# Altium footprint library CONN_TBLOCK_7P62.PcbLib: 76 footprints (part 3 of 5)
Each footprint in its own frame and in the unit in brackets; x right, y up, seen from the top. Pads: shape width x height; smd on the part's side, far side on the other; paste and mask are expansions set on the pad; w line width, h text height; cw(c..) or ccw(c..) is an arc to the next point about the centre after c.
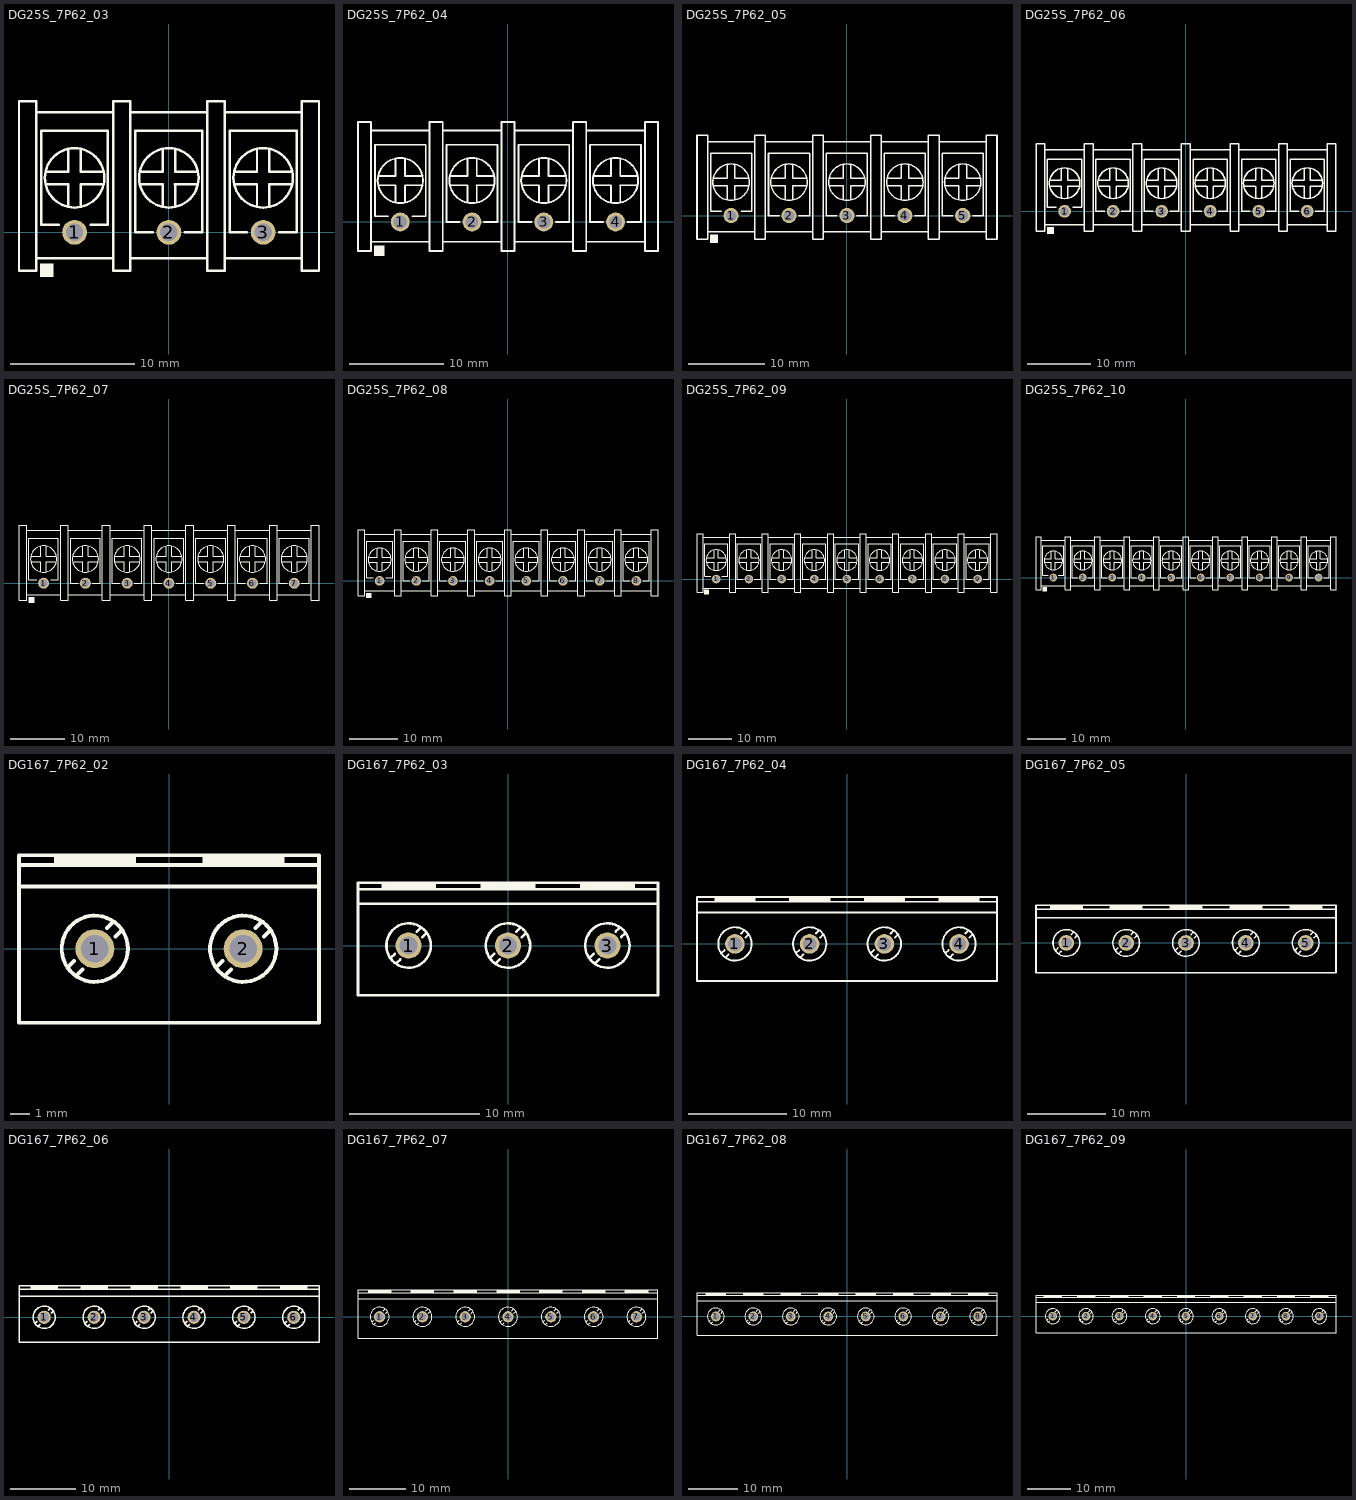
[diagram p2: the footprints below, top view; thin cyan lines are the x and y axes]

## DG25S_7P62_03 [mm] "Terminal Screw, pitch 7.62mm, H 14.8mm, DG25C-7.62-xxP"
height 14.8
pads (3):
  round 2 / inner round 2 / far side rect 2.2x3 hole 1.4: 1(-7.62,0)
  round 2 / inner round 2 / far side oval 2.2x3 hole 1.4: 2(0,0) 3(7.62,0)
Top Overlay:
  circle w0.2: c7.62,4.4 r2.4
  circle w0.2: c0,4.4 r2.4
  circle w0.2: c-7.62,4.4 r2.4
  rectangle: -10.42,-3.6 -9.32,-2.5
  lines w0.2: -10.71,-2.1 -4.51,-2.1 ; -10.71,9.7 -4.51,9.7 ; -9.92,3.9 -8.11,3.9 ; -9.92,4.9 -8.12,4.9 -8.12,6.7 ; -8.91,0.6 -10.32,0.6 -10.32,8.2 -4.92,8.2 -4.92,0.6 -6.31,0.6 ; -8.12,2.1 -8.12,3.9 ; -7.12,2.1 -7.12,3.9 ; -7.12,6.7 -7.12,4.9 -5.32,4.9 ; -7.11,3.9 -5.32,3.9 ; -3.09,-2.1 3.11,-2.1 ; -3.09,9.7 3.11,9.7 ; -2.3,3.9 -0.51,3.9 ; -2.3,4.9 -0.5,4.9 -0.5,6.7 ; -1.31,0 -2.7,0 -2.7,8.2 2.7,8.2 2.7,0 1.29,0 ; -0.5,2.1 -0.5,3.9 ; 0.49,3.9 2.3,3.9 ; 0.5,2.1 0.5,3.9 ; 0.5,6.7 0.5,4.9 2.3,4.9 ; 4.53,-2.1 10.73,-2.1 ; 4.53,9.7 10.73,9.7 ; 5.32,3.9 7.11,3.9 ; 5.32,4.9 7.12,4.9 7.12,6.7 ; 6.31,0 4.92,0 4.92,8.2 10.32,8.2 10.32,0 8.91,0 ; 7.12,2.1 7.12,3.9 ; 8.11,3.9 9.92,3.9 ; 8.12,2.1 8.12,3.9 ; 8.12,6.7 8.12,4.9 9.92,4.9 ; -12.11,-3.1 -12.11,10.6 -10.71,10.6 -10.71,-3.1 -12.11,-3.1 ; -4.51,-3.1 -4.51,10.6 -3.11,10.6 -3.11,-3.1 -4.51,-3.1 ; 3.11,-3.1 3.11,10.6 4.51,10.6 4.51,-3.1 3.11,-3.1 ; 10.73,-3.1 10.73,10.6 12.13,10.6 12.13,-3.1 10.73,-3.1
3D body "DG25S-B-03P.stp": height 14.8, standoff -5.4, extent -12.18,-3 12.18,10.5

## DG25S_7P62_04 [mm] "Terminal Screw, pitch 7.62mm, H 14.8mm, DG25C-7.62-xxP"
height 14.8
pads (4):
  round 2 / inner round 2 / far side rect 2.2x3 hole 1.4: 1(-11.43,0)
  round 2 / inner round 2 / far side oval 2.2x3 hole 1.4: 2(-3.81,0) 3(3.81,0) 4(11.43,0)
Top Overlay:
  circle w0.2: c-11.43,4.4 r2.4
  circle w0.2: c-3.81,4.4 r2.4
  circle w0.2: c3.81,4.4 r2.4
  circle w0.2: c11.43,4.4 r2.4
  rectangle: -14.23,-3.6 -13.13,-2.5
  lines w0.2: -14.52,-2.1 -8.32,-2.1 ; -14.52,9.7 -8.32,9.7 ; -13.73,3.9 -11.92,3.9 ; -13.73,4.9 -11.93,4.9 -11.93,6.7 ; -12.72,0.6 -14.13,0.6 -14.13,8.2 -8.73,8.2 -8.73,0.6 -10.12,0.6 ; -11.93,2.1 -11.93,3.9 ; -10.93,2.1 -10.93,3.9 ; -10.93,6.7 -10.93,4.9 -9.13,4.9 ; -10.92,3.9 -9.13,3.9 ; -6.9,-2.1 -0.7,-2.1 ; -6.9,9.7 -0.7,9.7 ; -6.11,3.9 -4.32,3.9 ; -6.11,4.9 -4.31,4.9 -4.31,6.7 ; -5.12,0 -6.51,0 -6.51,8.2 -1.11,8.2 -1.11,0 -2.52,0 ; -4.31,2.1 -4.31,3.9 ; -3.32,3.9 -1.51,3.9 ; -3.31,2.1 -3.31,3.9 ; -3.31,6.7 -3.31,4.9 -1.51,4.9 ; 0.72,-2.1 6.92,-2.1 ; 0.72,9.7 6.92,9.7 ; 1.51,3.9 3.3,3.9 ; 1.51,4.9 3.31,4.9 3.31,6.7 ; 2.5,0 1.11,0 1.11,8.2 6.51,8.2 6.51,0 5.1,0 ; 3.31,2.1 3.31,3.9 ; 4.3,3.9 6.11,3.9 ; 4.31,2.1 4.31,3.9 ; 4.31,6.7 4.31,4.9 6.11,4.9 ; 8.34,-2.1 14.54,-2.1 ; 8.34,9.7 14.54,9.7 ; 9.13,3.9 10.92,3.9 ; 9.13,4.9 10.93,4.9 10.93,6.7 ; 10.12,0 8.73,0 8.73,8.2 14.13,8.2 14.13,0 12.72,0 ; 10.93,2.1 10.93,3.9 ; 11.92,3.9 13.73,3.9 ; 11.93,2.1 11.93,3.9 ; 11.93,6.7 11.93,4.9 13.73,4.9 ; -15.92,-3.1 -14.52,-3.1 -14.52,10.6 -15.92,10.6 -15.92,-3.1 ; -8.32,-3.1 -6.92,-3.1 -6.92,10.6 -8.32,10.6 -8.32,-3.1 ; -0.7,-3.1 0.7,-3.1 0.7,10.6 -0.7,10.6 -0.7,-3.1 ; 6.92,-3.1 8.32,-3.1 8.32,10.6 6.92,10.6 6.92,-3.1 ; 14.54,-3.1 15.94,-3.1 15.94,10.6 14.54,10.6 14.54,-3.1
3D body "DG25S-B-02P.stp": height 14.8, standoff -5.4, extent -15.99,-3 0.75,10.5
3D body "DG25S-B-02P.stp": height 14.8, standoff -5.4, extent -0.75,-3 15.99,10.5

## DG25S_7P62_05 [mm] "Terminal Screw, pitch 7.62mm, H 14.8mm, DG25C-7.62-xxP"
height 14.8
pads (5):
  round 2 / inner round 2 / far side rect 2.2x3 hole 1.4: 1(-15.24,0)
  round 2 / inner round 2 / far side oval 2.2x3 hole 1.4: 2(-7.62,0) 3(0,0) 4(7.62,0) 5(15.24,0)
Top Overlay:
  circle w0.2: c15.24,4.4 r2.4
  circle w0.2: c7.62,4.4 r2.4
  circle w0.2: c0,4.4 r2.4
  circle w0.2: c-7.62,4.4 r2.4
  circle w0.2: c-15.24,4.4 r2.4
  rectangle: -18.04,-3.6 -16.94,-2.5
  lines w0.2: -18.33,-2.1 -12.13,-2.1 ; -18.33,9.7 -12.13,9.7 ; -17.54,3.9 -15.73,3.9 ; -17.54,4.9 -15.74,4.9 -15.74,6.7 ; -16.53,0.6 -17.94,0.6 -17.94,8.2 -12.54,8.2 -12.54,0.6 -13.93,0.6 ; -15.74,2.1 -15.74,3.9 ; -14.74,2.1 -14.74,3.9 ; -14.74,6.7 -14.74,4.9 -12.94,4.9 ; -14.73,3.9 -12.94,3.9 ; -10.71,-2.1 -4.51,-2.1 ; -10.71,9.7 -4.51,9.7 ; -9.92,3.9 -8.13,3.9 ; -9.92,4.9 -8.12,4.9 -8.12,6.7 ; -8.93,0 -10.32,0 -10.32,8.2 -4.92,8.2 -4.92,0 -6.33,0 ; -8.12,2.1 -8.12,3.9 ; -7.13,3.9 -5.32,3.9 ; -7.12,2.1 -7.12,3.9 ; -7.12,6.7 -7.12,4.9 -5.32,4.9 ; -3.09,-2.1 3.11,-2.1 ; -3.09,9.7 3.11,9.7 ; -2.3,3.9 -0.51,3.9 ; -2.3,4.9 -0.5,4.9 -0.5,6.7 ; -1.31,0 -2.7,0 -2.7,8.2 2.7,8.2 2.7,0 1.29,0 ; -0.5,2.1 -0.5,3.9 ; 0.49,3.9 2.3,3.9 ; 0.5,2.1 0.5,3.9 ; 0.5,6.7 0.5,4.9 2.3,4.9 ; 4.53,-2.1 10.73,-2.1 ; 4.53,9.7 10.73,9.7 ; 5.32,3.9 7.11,3.9 ; 5.32,4.9 7.12,4.9 7.12,6.7 ; 6.31,0 4.92,0 4.92,8.2 10.32,8.2 10.32,0 8.91,0 ; 7.12,2.1 7.12,3.9 ; 8.11,3.9 9.92,3.9 ; 8.12,2.1 8.12,3.9 ; 8.12,6.7 8.12,4.9 9.92,4.9 ; 12.15,-2.1 18.35,-2.1 ; 12.15,9.7 18.35,9.7 ; 12.94,3.9 14.73,3.9 ; 12.94,4.9 14.74,4.9 14.74,6.7 ; 13.93,0 12.54,0 12.54,8.2 17.94,8.2 17.94,0 16.53,0 ; 14.74,2.1 14.74,3.9 ; 15.73,3.9 17.54,3.9 ; 15.74,2.1 15.74,3.9 ; 15.74,6.7 15.74,4.9 17.54,4.9 ; -19.73,-3.1 -19.73,10.6 -18.33,10.6 -18.33,-3.1 -19.73,-3.1 ; -12.13,-3.1 -12.13,10.6 -10.73,10.6 -10.73,-3.1 -12.13,-3.1 ; -4.51,-3.1 -4.51,10.6 -3.11,10.6 -3.11,-3.1 -4.51,-3.1 ; 3.11,-3.1 3.11,10.6 4.51,10.6 4.51,-3.1 3.11,-3.1 ; 10.73,-3.1 10.73,10.6 12.13,10.6 12.13,-3.1 10.73,-3.1 ; 18.35,-3.1 18.35,10.6 19.75,10.6 19.75,-3.1 18.35,-3.1
3D body "DG25S-B-02P.stp": height 14.8, standoff -5.4, extent -19.8,-3 -3.06,10.5
3D body "DG25S-B-03P.stp": height 14.8, standoff -5.4, extent -4.56,-3 19.8,10.5

## DG25S_7P62_06 [mm] "Terminal Screw, pitch 7.62mm, H 14.8mm, DG25C-7.62-xxP"
height 14.8
pads (6):
  round 2 / inner round 2 / far side rect 2.2x3 hole 1.4: 1(-19.05,0)
  round 2 / inner round 2 / far side oval 2.2x3 hole 1.4: 2(-11.43,0) 3(-3.81,0) 4(3.81,0) 5(11.43,0) 6(19.05,0)
Top Overlay:
  circle w0.2: c19.05,4.4 r2.4
  circle w0.2: c11.43,4.4 r2.4
  circle w0.2: c3.81,4.4 r2.4
  circle w0.2: c-3.81,4.4 r2.4
  circle w0.2: c-11.43,4.4 r2.4
  circle w0.2: c-19.05,4.4 r2.4
  rectangle: -21.85,-3.6 -20.75,-2.5
  lines w0.2: -22.14,-2.1 -15.94,-2.1 ; -22.14,9.7 -15.94,9.7 ; -21.35,3.9 -19.54,3.9 ; -21.35,4.9 -19.55,4.9 -19.55,6.7 ; -20.34,0.6 -21.75,0.6 -21.75,8.2 -16.35,8.2 -16.35,0.6 -17.74,0.6 ; -19.55,2.1 -19.55,3.9 ; -18.55,2.1 -18.55,3.9 ; -18.55,6.7 -18.55,4.9 -16.75,4.9 ; -18.54,3.9 -16.75,3.9 ; -14.52,-2.1 -8.32,-2.1 ; -14.52,9.7 -8.32,9.7 ; -13.73,3.9 -11.94,3.9 ; -13.73,4.9 -11.93,4.9 -11.93,6.7 ; -12.74,0 -14.13,0 -14.13,8.2 -8.73,8.2 -8.73,0 -10.14,0 ; -11.93,2.1 -11.93,3.9 ; -10.94,3.9 -9.13,3.9 ; -10.93,2.1 -10.93,3.9 ; -10.93,6.7 -10.93,4.9 -9.13,4.9 ; -6.9,-2.1 -0.7,-2.1 ; -6.9,9.7 -0.7,9.7 ; -6.11,3.9 -4.32,3.9 ; -6.11,4.9 -4.31,4.9 -4.31,6.7 ; -5.12,0 -6.51,0 -6.51,8.2 -1.11,8.2 -1.11,0 -2.52,0 ; -4.31,2.1 -4.31,3.9 ; -3.32,3.9 -1.51,3.9 ; -3.31,2.1 -3.31,3.9 ; -3.31,6.7 -3.31,4.9 -1.51,4.9 ; 0.72,-2.1 6.92,-2.1 ; 0.72,9.7 6.92,9.7 ; 1.51,3.9 3.3,3.9 ; 1.51,4.9 3.31,4.9 3.31,6.7 ; 2.5,0 1.11,0 1.11,8.2 6.51,8.2 6.51,0 5.1,0 ; 3.31,2.1 3.31,3.9 ; 4.3,3.9 6.11,3.9 ; 4.31,2.1 4.31,3.9 ; 4.31,6.7 4.31,4.9 6.11,4.9 ; 8.34,-2.1 14.54,-2.1 ; 8.34,9.7 14.54,9.7 ; 9.13,3.9 10.92,3.9 ; 9.13,4.9 10.93,4.9 10.93,6.7 ; 10.12,0 8.73,0 8.73,8.2 14.13,8.2 14.13,0 12.72,0 ; 10.93,2.1 10.93,3.9 ; 11.92,3.9 13.73,3.9 ; 11.93,2.1 11.93,3.9 ; 11.93,6.7 11.93,4.9 13.73,4.9 ; 15.96,-2.1 22.16,-2.1 ; 15.96,9.7 22.16,9.7 ; 16.75,3.9 18.54,3.9 ; 16.75,4.9 18.55,4.9 18.55,6.7 ; 17.74,0 16.35,0 16.35,8.2 21.75,8.2 21.75,0 20.34,0 ; 18.55,2.1 18.55,3.9 ; 19.54,3.9 21.35,3.9 ; 19.55,2.1 19.55,3.9 ; 19.55,6.7 19.55,4.9 21.35,4.9 ; -23.54,-3.1 -23.54,10.6 -22.14,10.6 -22.14,-3.1 -23.54,-3.1 ; -15.94,-3.1 -15.94,10.6 -14.54,10.6 -14.54,-3.1 -15.94,-3.1 ; -8.32,-3.1 -8.32,10.6 -6.92,10.6 -6.92,-3.1 -8.32,-3.1 ; -0.7,-3.1 -0.7,10.6 0.7,10.6 0.7,-3.1 -0.7,-3.1 ; 6.92,-3.1 6.92,10.6 8.32,10.6 8.32,-3.1 6.92,-3.1 ; 14.54,-3.1 14.54,10.6 15.94,10.6 15.94,-3.1 14.54,-3.1 ; 22.16,-3.1 22.16,10.6 23.56,10.6 23.56,-3.1 22.16,-3.1
3D body "DG25S-B-03P.stp": height 14.8, standoff -5.4, extent -0.75,-3 23.61,10.5
3D body "DG25S-B-03P.stp": height 14.8, standoff -5.4, extent -23.61,-3 0.75,10.5

## DG25S_7P62_07 [mm] "Terminal Screw, pitch 7.62mm, H 14.8mm, DG25C-7.62-xxP"
height 14.8
pads (7):
  round 2 / inner round 2 / far side rect 2.2x3 hole 1.4: 1(-22.86,0)
  round 2 / inner round 2 / far side oval 2.2x3 hole 1.4: 2(-15.24,0) 3(-7.62,0) 4(0,0) 5(7.62,0) 6(15.24,0) 7(22.86,0)
Top Overlay:
  circle w0.2: c22.86,4.4 r2.4
  circle w0.2: c15.24,4.4 r2.4
  circle w0.2: c7.62,4.4 r2.4
  circle w0.2: c0,4.4 r2.4
  circle w0.2: c-7.62,4.4 r2.4
  circle w0.2: c-15.24,4.4 r2.4
  circle w0.2: c-22.86,4.4 r2.4
  rectangle: -25.66,-3.6 -24.56,-2.5
  lines w0.2: -25.95,-2.1 -19.75,-2.1 ; -25.95,9.7 -19.75,9.7 ; -25.16,3.9 -23.35,3.9 ; -25.16,4.9 -23.36,4.9 -23.36,6.7 ; -24.15,0.6 -25.56,0.6 -25.56,8.2 -20.16,8.2 -20.16,0.6 -21.55,0.6 ; -23.36,2.1 -23.36,3.9 ; -22.36,2.1 -22.36,3.9 ; -22.36,6.7 -22.36,4.9 -20.56,4.9 ; -22.35,3.9 -20.56,3.9 ; -18.33,-2.1 -12.13,-2.1 ; -18.33,9.7 -12.13,9.7 ; -17.54,3.9 -15.75,3.9 ; -17.54,4.9 -15.74,4.9 -15.74,6.7 ; -16.55,0 -17.94,0 -17.94,8.2 -12.54,8.2 -12.54,0 -13.95,0 ; -15.74,2.1 -15.74,3.9 ; -14.75,3.9 -12.94,3.9 ; -14.74,2.1 -14.74,3.9 ; -14.74,6.7 -14.74,4.9 -12.94,4.9 ; -10.71,-2.1 -4.51,-2.1 ; -10.71,9.7 -4.51,9.7 ; -9.92,3.9 -8.13,3.9 ; -9.92,4.9 -8.12,4.9 -8.12,6.7 ; -8.93,0 -10.32,0 -10.32,8.2 -4.92,8.2 -4.92,0 -6.33,0 ; -8.12,2.1 -8.12,3.9 ; -7.13,3.9 -5.32,3.9 ; -7.12,2.1 -7.12,3.9 ; -7.12,6.7 -7.12,4.9 -5.32,4.9 ; -3.09,-2.1 3.11,-2.1 ; -3.09,9.7 3.11,9.7 ; -2.3,3.9 -0.51,3.9 ; -2.3,4.9 -0.5,4.9 -0.5,6.7 ; -1.31,0 -2.7,0 -2.7,8.2 2.7,8.2 2.7,0 1.29,0 ; -0.5,2.1 -0.5,3.9 ; 0.49,3.9 2.3,3.9 ; 0.5,2.1 0.5,3.9 ; 0.5,6.7 0.5,4.9 2.3,4.9 ; 4.53,-2.1 10.73,-2.1 ; 4.53,9.7 10.73,9.7 ; 5.32,3.9 7.11,3.9 ; 5.32,4.9 7.12,4.9 7.12,6.7 ; 6.31,0 4.92,0 4.92,8.2 10.32,8.2 10.32,0 8.91,0 ; 7.12,2.1 7.12,3.9 ; 8.11,3.9 9.92,3.9 ; 8.12,2.1 8.12,3.9 ; 8.12,6.7 8.12,4.9 9.92,4.9 ; 12.15,-2.1 18.35,-2.1 ; 12.15,9.7 18.35,9.7 ; 12.94,3.9 14.73,3.9 ; 12.94,4.9 14.74,4.9 14.74,6.7 ; 13.93,0 12.54,0 12.54,8.2 17.94,8.2 17.94,0 16.53,0 ; 14.74,2.1 14.74,3.9 ; 15.73,3.9 17.54,3.9 ; 15.74,2.1 15.74,3.9 ; 15.74,6.7 15.74,4.9 17.54,4.9 ; 19.77,-2.1 25.97,-2.1 ; 19.77,9.7 25.97,9.7 ; 20.56,3.9 22.35,3.9 ; 20.56,4.9 22.36,4.9 22.36,6.7 ; 21.55,0 20.16,0 20.16,8.2 25.56,8.2 25.56,0 24.15,0 ; 22.36,2.1 22.36,3.9 ; 23.35,3.9 25.16,3.9 ; 23.36,2.1 23.36,3.9 ; 23.36,6.7 23.36,4.9 25.16,4.9 ; -27.35,-3.1 -27.35,10.6 -25.95,10.6 -25.95,-3.1 -27.35,-3.1 ; -19.75,-3.1 -19.75,10.6 -18.35,10.6 -18.35,-3.1 -19.75,-3.1 ; -12.13,-3.1 -12.13,10.6 -10.73,10.6 -10.73,-3.1 -12.13,-3.1 ; -4.51,-3.1 -4.51,10.6 -3.11,10.6 -3.11,-3.1 -4.51,-3.1 ; 3.11,-3.1 3.11,10.6 4.51,10.6 4.51,-3.1 3.11,-3.1 ; 10.73,-3.1 10.73,10.6 12.13,10.6 12.13,-3.1 10.73,-3.1 ; 18.35,-3.1 18.35,10.6 19.75,10.6 19.75,-3.1 18.35,-3.1 ; 25.97,-3.1 25.97,10.6 27.37,10.6 27.37,-3.1 25.97,-3.1
3D body "DG25S-B-02P.stp": height 14.8, standoff -5.4, extent -27.42,-3 -10.68,10.5
3D body "DG25S-B-03P.stp": height 14.8, standoff -5.4, extent -12.18,-3 12.18,10.5
3D body "DG25S-B-02P.stp": height 14.8, standoff -5.4, extent 10.68,-3 27.42,10.5

## DG25S_7P62_08 [mm] "Terminal Screw, pitch 7.62mm, H 14.8mm, DG25C-7.62-xxP"
height 14.8
pads (8):
  round 2 / inner round 2 / far side rect 2.2x3 hole 1.4: 1(-26.67,0)
  round 2 / inner round 2 / far side oval 2.2x3 hole 1.4: 2(-19.05,0) 3(-11.43,0) 4(-3.81,0) 5(3.81,0) 6(11.43,0) 7(19.05,0) 8(26.67,0)
Top Overlay:
  drawing of 165 lines, arcs and shapes, not listed
3D body "DG25S-B-02P.stp": height 14.8, standoff -5.4, extent -31.23,-3 -14.49,10.5
3D body "DG25S-B-03P.stp": height 14.8, standoff -5.4, extent -15.99,-3 8.37,10.5
3D body "DG25S-B-03P.stp": height 14.8, standoff -5.4, extent 6.87,-3 31.23,10.5

## DG25S_7P62_09 [mm] "Terminal Screw, pitch 7.62mm, H 14.8mm, DG25C-7.62-xxP"
height 14.8
pads (9):
  round 2 / inner round 2 / far side rect 2.2x3 hole 1.4: 1(-30.48,0)
  round 2 / inner round 2 / far side oval 2.2x3 hole 1.4: 2(-22.86,0) 3(-15.24,0) 4(-7.62,0) 5(0,0) 6(7.62,0) 7(15.24,0) 8(22.86,0) 9(30.48,0)
Top Overlay:
  drawing of 185 lines, arcs and shapes, not listed
3D body "DG25S-B-03P.stp": height 14.8, standoff -5.4, extent 10.68,-3 35.04,10.5
3D body "DG25S-B-03P.stp": height 14.8, standoff -5.4, extent -12.18,-3 12.18,10.5
3D body "DG25S-B-03P.stp": height 14.8, standoff -5.4, extent -35.06,-2.9 -10.7,10.6

## DG25S_7P62_10 [mm] "Terminal Screw, pitch 7.62mm, H 14.8mm, DG25C-7.62-xxP"
height 14.8
pads (10):
  round 2 / inner round 2 / far side rect 2.2x3 hole 1.4: 1(-34.29,0)
  round 2 / inner round 2 / far side oval 2.2x3 hole 1.4: 2(-26.67,0) 3(-19.05,0) 4(-11.43,0) 5(-3.81,0) 6(3.81,0) 7(11.43,0) 8(19.05,0) 9(26.67,0) 10(34.29,0)
Top Overlay:
  drawing of 205 lines, arcs and shapes, not listed
3D body "DG25S-B-02P.stp": height 14.8, standoff -5.4, extent -38.85,-3 -22.11,10.5
3D body "DG25S-B-03P.stp": height 14.8, standoff -5.4, extent -23.61,-3 0.75,10.5
3D body "DG25S-B-02P.stp": height 14.8, standoff -5.4, extent -0.75,-3 15.99,10.5
3D body "DG25S-B-03P.stp": height 14.8, standoff -5.4, extent 14.49,-3 38.85,10.5

## DG167_7P62_02 [mm] "Terminal Screw, pitch 7.62mm, H 13.7mm"
height 13.7
pads (2):
  round 2 / inner round 2 / far side rect 2.2x3 hole 1.4: 1(-3.81,0)
  round 2 / inner round 2 / far side oval 2.2x3 hole 1.4: 2(3.81,0)
Top Overlay:
  circle w0.2: c3.81,0 r1.7
  circle w0.2: c-3.81,0 r1.7
  rectangle: 1.72,4.2 5.92,4.8
  rectangle: -5.9,4.2 -1.7,4.8
  lines w0.2: -7.7,3.2 7.7,3.2 ; -7.7,4.3 7.7,4.3 ; -5.154,-0.919 -4.871,-0.636 ; -4.729,-1.344 -4.446,-1.061 ; -3.174,1.061 -2.891,1.343 ; -2.749,0.636 -2.467,0.919 ; 2.466,-0.919 2.749,-0.636 ; 2.891,-1.344 3.174,-1.061 ; 4.446,1.061 4.729,1.343 ; 4.871,0.636 5.153,0.919 ; -7.7,-3.8 7.7,-3.8 7.7,4.8 -7.7,4.8 -7.7,-3.8
3D body "DG167-7.62-02P-12-00AH.STEP": height 13.7, standoff -4.5, extent -7.62,-3.8 7.62,4.8

## DG167_7P62_03 [mm] "Terminal Screw, pitch 7.62mm, H 13.7mm"
height 13.7
pads (3):
  round 2 / inner round 2 / far side rect 2.2x3 hole 1.4: 1(-7.62,0)
  round 2 / inner round 2 / far side oval 2.2x3 hole 1.4: 2(0,0) 3(7.62,0)
Top Overlay:
  circle w0.2: c7.62,0 r1.7
  circle w0.2: c0,0 r1.7
  circle w0.2: c-7.62,0 r1.7
  rectangle: 5.53,4.2 9.73,4.8
  rectangle: -2.09,4.2 2.11,4.8
  rectangle: -9.71,4.2 -5.51,4.8
  lines w0.2: -11.5,3.2 11.5,3.2 ; -11.5,4.3 11.5,4.3 ; -8.964,-0.919 -8.681,-0.636 ; -8.539,-1.344 -8.256,-1.061 ; -6.984,1.061 -6.701,1.343 ; -6.559,0.636 -6.277,0.919 ; -1.344,-0.919 -1.061,-0.636 ; -0.919,-1.344 -0.636,-1.061 ; 0.636,1.061 0.919,1.343 ; 1.061,0.636 1.343,0.919 ; 6.276,-0.919 6.559,-0.636 ; 6.701,-1.344 6.984,-1.061 ; 8.256,1.061 8.539,1.343 ; 8.681,0.636 8.963,0.919 ; -11.5,-3.8 11.5,-3.8 11.5,4.8 -11.5,4.8 -11.5,-3.8
3D body "DG167-7.62-03P-12-00AH.STEP": height 13.7, standoff -4.5, extent -11.43,-3.8 11.43,4.8

## DG167_7P62_04 [mm] "Terminal Screw, pitch 7.62mm, H 13.7mm"
height 13.7
pads (4):
  round 2 / inner round 2 / far side rect 2.2x3 hole 1.4: 1(-11.43,0)
  round 2 / inner round 2 / far side oval 2.2x3 hole 1.4: 2(-3.81,0) 3(3.81,0) 4(11.43,0)
Top Overlay:
  circle w0.2: c-11.43,0 r1.7
  circle w0.2: c-3.81,0 r1.7
  circle w0.2: c3.81,0 r1.7
  circle w0.2: c11.43,0 r1.7
  rectangle: -13.52,4.2 -9.32,4.8
  rectangle: -5.9,4.2 -1.7,4.8
  rectangle: 1.72,4.2 5.92,4.8
  rectangle: 9.34,4.2 13.54,4.8
  lines w0.2: -15.3,3.2 15.3,3.2 ; -15.3,4.3 15.3,4.3 ; -12.774,-0.919 -12.491,-0.636 ; -12.349,-1.344 -12.066,-1.061 ; -10.794,1.061 -10.511,1.343 ; -10.369,0.636 -10.087,0.919 ; -5.154,-0.919 -4.871,-0.636 ; -4.729,-1.344 -4.446,-1.061 ; -3.174,1.061 -2.891,1.343 ; -2.749,0.636 -2.467,0.919 ; 2.466,-0.919 2.749,-0.636 ; 2.891,-1.344 3.174,-1.061 ; 4.446,1.061 4.729,1.343 ; 4.871,0.636 5.153,0.919 ; 10.086,-0.919 10.369,-0.636 ; 10.511,-1.344 10.794,-1.061 ; 12.066,1.061 12.349,1.343 ; 12.491,0.636 12.773,0.919 ; -15.3,-3.8 15.3,-3.8 15.3,4.8 -15.3,4.8 -15.3,-3.8
3D body "DG167-7.62-04P-12-00AH.STEP": height 13.7, standoff -4.5, extent -15.24,-3.8 15.24,4.8

## DG167_7P62_05 [mm] "Terminal Screw, pitch 7.62mm, H 13.7mm"
height 13.7
pads (5):
  round 2 / inner round 2 / far side rect 2.2x3 hole 1.4: 1(-15.24,0)
  round 2 / inner round 2 / far side oval 2.2x3 hole 1.4: 2(-7.62,0) 3(0,0) 4(7.62,0) 5(15.24,0)
Top Overlay:
  circle w0.2: c15.24,0 r1.7
  circle w0.2: c7.62,0 r1.7
  circle w0.2: c0,0 r1.7
  circle w0.2: c-7.62,0 r1.7
  circle w0.2: c-15.24,0 r1.7
  rectangle: -17.33,4.2 -13.13,4.8
  rectangle: -9.71,4.2 -5.51,4.8
  rectangle: -2.09,4.2 2.11,4.8
  rectangle: 5.53,4.2 9.73,4.8
  rectangle: 13.15,4.2 17.35,4.8
  lines w0.2: -19.1,3.2 19.1,3.2 ; -19.1,4.3 19.1,4.3 ; -16.584,-0.919 -16.301,-0.636 ; -16.159,-1.344 -15.876,-1.061 ; -14.604,1.061 -14.321,1.343 ; -14.179,0.636 -13.897,0.919 ; -8.964,-0.919 -8.681,-0.636 ; -8.539,-1.344 -8.256,-1.061 ; -6.984,1.061 -6.701,1.343 ; -6.559,0.636 -6.277,0.919 ; -1.344,-0.919 -1.061,-0.636 ; -0.919,-1.344 -0.636,-1.061 ; 0.636,1.061 0.919,1.343 ; 1.061,0.636 1.343,0.919 ; 6.276,-0.919 6.559,-0.636 ; 6.701,-1.344 6.984,-1.061 ; 8.256,1.061 8.539,1.343 ; 8.681,0.636 8.963,0.919 ; 13.896,-0.919 14.179,-0.636 ; 14.321,-1.344 14.604,-1.061 ; 15.876,1.061 16.159,1.343 ; 16.301,0.636 16.583,0.919 ; -19.1,-3.8 19.1,-3.8 19.1,4.8 -19.1,4.8 -19.1,-3.8
3D body "DG167-7.62-05P-12-00AH.STEP": height 13.7, standoff -4.5, extent -19.05,-3.81 19.05,4.79

## DG167_7P62_06 [mm] "Terminal Screw, pitch 7.62mm, H 13.7mm"
height 13.7
pads (6):
  round 2 / inner round 2 / far side rect 2.2x3 hole 1.4: 1(-19.05,0)
  round 2 / inner round 2 / far side oval 2.2x3 hole 1.4: 2(-11.43,0) 3(-3.81,0) 4(3.81,0) 5(11.43,0) 6(19.05,0)
Top Overlay:
  circle w0.2: c19.05,0 r1.7
  circle w0.2: c11.43,0 r1.7
  circle w0.2: c3.81,0 r1.7
  circle w0.2: c-3.81,0 r1.7
  circle w0.2: c-11.43,0 r1.7
  circle w0.2: c-19.05,0 r1.7
  rectangle: 16.96,4.2 21.16,4.8
  rectangle: 9.34,4.2 13.54,4.8
  rectangle: 1.72,4.2 5.92,4.8
  rectangle: -5.9,4.2 -1.7,4.8
  rectangle: -13.52,4.2 -9.32,4.8
  rectangle: -21.14,4.2 -16.94,4.8
  lines w0.2: -22.9,3.2 22.9,3.2 ; -22.9,4.3 22.9,4.3 ; -20.394,-0.919 -20.111,-0.636 ; -19.969,-1.344 -19.686,-1.061 ; -18.414,1.061 -18.131,1.343 ; -17.989,0.636 -17.707,0.919 ; -12.774,-0.919 -12.491,-0.636 ; -12.349,-1.344 -12.066,-1.061 ; -10.794,1.061 -10.511,1.343 ; -10.369,0.636 -10.087,0.919 ; -5.154,-0.919 -4.871,-0.636 ; -4.729,-1.344 -4.446,-1.061 ; -3.174,1.061 -2.891,1.343 ; -2.749,0.636 -2.467,0.919 ; 2.466,-0.919 2.749,-0.636 ; 2.891,-1.344 3.174,-1.061 ; 4.446,1.061 4.729,1.343 ; 4.871,0.636 5.153,0.919 ; 10.086,-0.919 10.369,-0.636 ; 10.511,-1.344 10.794,-1.061 ; 12.066,1.061 12.349,1.343 ; 12.491,0.636 12.773,0.919 ; 17.706,-0.919 17.989,-0.636 ; 18.131,-1.344 18.414,-1.061 ; 19.686,1.061 19.969,1.343 ; 20.111,0.636 20.393,0.919 ; -22.9,-3.8 -22.9,4.8 22.9,4.8 22.9,-3.8 -22.9,-3.8
3D body "DG167-7.62-06P-12-00AH.STEP": height 13.7, standoff -4.5, extent -22.86,-3.8 22.86,4.8

## DG167_7P62_07 [mm] "Terminal Screw, pitch 7.62mm, H 13.7mm"
height 13.7
pads (7):
  round 2 / inner round 2 / far side rect 2.2x3 hole 1.4: 1(-22.86,0)
  round 2 / inner round 2 / far side oval 2.2x3 hole 1.4: 2(-15.24,0) 3(-7.62,0) 4(0,0) 5(7.62,0) 6(15.24,0) 7(22.86,0)
Top Overlay:
  circle w0.2: c-22.86,0 r1.7
  circle w0.2: c-15.24,0 r1.7
  circle w0.2: c-7.62,0 r1.7
  circle w0.2: c0,0 r1.7
  circle w0.2: c7.62,0 r1.7
  circle w0.2: c15.24,0 r1.7
  circle w0.2: c22.86,0 r1.7
  rectangle: 20.77,4.2 24.97,4.8
  rectangle: 13.15,4.2 17.35,4.8
  rectangle: 5.53,4.2 9.73,4.8
  rectangle: -2.09,4.2 2.11,4.8
  rectangle: -9.71,4.2 -5.51,4.8
  rectangle: -17.33,4.2 -13.13,4.8
  rectangle: -24.95,4.2 -20.75,4.8
  lines w0.2: -26.7,3.2 26.7,3.2 ; -26.7,4.3 26.7,4.3 ; -24.204,-0.919 -23.921,-0.636 ; -23.779,-1.344 -23.496,-1.061 ; -22.224,1.061 -21.941,1.343 ; -21.799,0.636 -21.517,0.919 ; -16.584,-0.919 -16.301,-0.636 ; -16.159,-1.344 -15.876,-1.061 ; -14.604,1.061 -14.321,1.343 ; -14.179,0.636 -13.897,0.919 ; -8.964,-0.919 -8.681,-0.636 ; -8.539,-1.344 -8.256,-1.061 ; -6.984,1.061 -6.701,1.343 ; -6.559,0.636 -6.277,0.919 ; -1.344,-0.919 -1.061,-0.636 ; -0.919,-1.344 -0.636,-1.061 ; 0.636,1.061 0.919,1.343 ; 1.061,0.636 1.343,0.919 ; 6.276,-0.919 6.559,-0.636 ; 6.701,-1.344 6.984,-1.061 ; 8.256,1.061 8.539,1.343 ; 8.681,0.636 8.963,0.919 ; 13.896,-0.919 14.179,-0.636 ; 14.321,-1.344 14.604,-1.061 ; 15.876,1.061 16.159,1.343 ; 16.301,0.636 16.583,0.919 ; 21.516,-0.919 21.799,-0.636 ; 21.941,-1.344 22.224,-1.061 ; 23.496,1.061 23.779,1.343 ; 23.921,0.636 24.203,0.919 ; -26.7,-3.8 -26.7,4.8 26.7,4.8 26.7,-3.8 -26.7,-3.8
3D body "DG167-7.62-07P-12-00AH.STEP": height 13.7, standoff -4.5, extent -26.67,-3.8 26.67,4.8

## DG167_7P62_08 [mm] "Terminal Screw, pitch 7.62mm, H 13.7mm"
height 13.7
pads (8):
  round 2 / inner round 2 / far side rect 2.2x3 hole 1.4: 1(-26.67,0)
  round 2 / inner round 2 / far side oval 2.2x3 hole 1.4: 2(-19.05,0) 3(-11.43,0) 4(-3.81,0) 5(3.81,0) 6(11.43,0) 7(19.05,0) 8(26.67,0)
Top Overlay:
  circle w0.2: c-26.67,0 r1.7
  circle w0.2: c-19.05,0 r1.7
  circle w0.2: c-11.43,0 r1.7
  circle w0.2: c-3.81,0 r1.7
  circle w0.2: c3.81,0 r1.7
  circle w0.2: c11.43,0 r1.7
  circle w0.2: c19.05,0 r1.7
  circle w0.2: c26.67,0 r1.7
  rectangle: 24.58,4.2 28.78,4.8
  rectangle: 16.96,4.2 21.16,4.8
  rectangle: 9.34,4.2 13.54,4.8
  rectangle: 1.72,4.2 5.92,4.8
  rectangle: -5.9,4.2 -1.7,4.8
  rectangle: -13.52,4.2 -9.32,4.8
  rectangle: -21.14,4.2 -16.94,4.8
  rectangle: -28.76,4.2 -24.56,4.8
  lines w0.2: -30.5,3.2 30.5,3.2 ; -30.5,4.3 30.5,4.3 ; -28.014,-0.919 -27.731,-0.636 ; -27.589,-1.344 -27.306,-1.061 ; -26.034,1.061 -25.751,1.343 ; -25.609,0.636 -25.327,0.919 ; -20.394,-0.919 -20.111,-0.636 ; -19.969,-1.344 -19.686,-1.061 ; -18.414,1.061 -18.131,1.343 ; -17.989,0.636 -17.707,0.919 ; -12.774,-0.919 -12.491,-0.636 ; -12.349,-1.344 -12.066,-1.061 ; -10.794,1.061 -10.511,1.343 ; -10.369,0.636 -10.087,0.919 ; -5.154,-0.919 -4.871,-0.636 ; -4.729,-1.344 -4.446,-1.061 ; -3.174,1.061 -2.891,1.343 ; -2.749,0.636 -2.467,0.919 ; 2.466,-0.919 2.749,-0.636 ; 2.891,-1.344 3.174,-1.061 ; 4.446,1.061 4.729,1.343 ; 4.871,0.636 5.153,0.919 ; 10.086,-0.919 10.369,-0.636 ; 10.511,-1.344 10.794,-1.061 ; 12.066,1.061 12.349,1.343 ; 12.491,0.636 12.773,0.919 ; 17.706,-0.919 17.989,-0.636 ; 18.131,-1.344 18.414,-1.061 ; 19.686,1.061 19.969,1.343 ; 20.111,0.636 20.393,0.919 ; 25.326,-0.919 25.609,-0.636 ; 25.751,-1.344 26.034,-1.061 ; 27.306,1.061 27.589,1.343 ; 27.731,0.636 28.013,0.919 ; -30.5,-3.8 30.5,-3.8 30.5,4.8 -30.5,4.8 -30.5,-3.8
3D body "DG167-7.62-08P-12-00AH.STEP": height 13.7, standoff -4.5, extent -30.485,-3.8 30.475,4.8

## DG167_7P62_09 [mm] "Terminal Screw, pitch 7.62mm, H 13.7mm"
height 13.7
pads (9):
  round 2 / inner round 2 / far side rect 2.2x3 hole 1.4: 1(-30.48,0)
  round 2 / inner round 2 / far side oval 2.2x3 hole 1.4: 2(-22.86,0) 3(-15.24,0) 4(-7.62,0) 5(0,0) 6(7.62,0) 7(15.24,0) 8(22.86,0) 9(30.48,0)
Top Overlay:
  circle w0.2: c-30.48,0 r1.7
  circle w0.2: c-22.86,0 r1.7
  circle w0.2: c-15.24,0 r1.7
  circle w0.2: c-7.62,0 r1.7
  circle w0.2: c0,0 r1.7
  circle w0.2: c7.62,0 r1.7
  circle w0.2: c15.24,0 r1.7
  circle w0.2: c22.86,0 r1.7
  circle w0.2: c30.48,0 r1.7
  rectangle: 28.39,4.2 32.59,4.8
  rectangle: 20.77,4.2 24.97,4.8
  rectangle: 13.15,4.2 17.35,4.8
  rectangle: 5.53,4.2 9.73,4.8
  rectangle: -2.09,4.2 2.11,4.8
  rectangle: -9.71,4.2 -5.51,4.8
  rectangle: -17.33,4.2 -13.13,4.8
  rectangle: -24.95,4.2 -20.75,4.8
  rectangle: -32.57,4.2 -28.37,4.8
  lines w0.2: -34.3,3.2 34.3,3.2 ; -34.3,4.3 34.3,4.3 ; -31.824,-0.919 -31.541,-0.636 ; -31.399,-1.344 -31.116,-1.061 ; -29.844,1.061 -29.561,1.343 ; -29.419,0.636 -29.137,0.919 ; -24.204,-0.919 -23.921,-0.636 ; -23.779,-1.344 -23.496,-1.061 ; -22.224,1.061 -21.941,1.343 ; -21.799,0.636 -21.517,0.919 ; -16.584,-0.919 -16.301,-0.636 ; -16.159,-1.344 -15.876,-1.061 ; -14.604,1.061 -14.321,1.343 ; -14.179,0.636 -13.897,0.919 ; -8.964,-0.919 -8.681,-0.636 ; -8.539,-1.344 -8.256,-1.061 ; -6.984,1.061 -6.701,1.343 ; -6.559,0.636 -6.277,0.919 ; -1.344,-0.919 -1.061,-0.636 ; -0.919,-1.344 -0.636,-1.061 ; 0.636,1.061 0.919,1.343 ; 1.061,0.636 1.343,0.919 ; 6.276,-0.919 6.559,-0.636 ; 6.701,-1.344 6.984,-1.061 ; 8.256,1.061 8.539,1.343 ; 8.681,0.636 8.963,0.919 ; 13.896,-0.919 14.179,-0.636 ; 14.321,-1.344 14.604,-1.061 ; 15.876,1.061 16.159,1.343 ; 16.301,0.636 16.583,0.919 ; 21.516,-0.919 21.799,-0.636 ; 21.941,-1.344 22.224,-1.061 ; 23.496,1.061 23.779,1.343 ; 23.921,0.636 24.203,0.919 ; 29.136,-0.919 29.419,-0.636 ; 29.561,-1.344 29.844,-1.061 ; 31.116,1.061 31.399,1.343 ; 31.541,0.636 31.823,0.919 ; -34.3,-3.8 34.3,-3.8 34.3,4.8 -34.3,4.8 -34.3,-3.8
3D body "DG167-7.62-09P-12-00AH.STEP": height 13.7, standoff -4.5, extent -34.29,-3.8 34.29,4.8